# EAGLE library part 6120XX21721_61205021721 (library WR-BHD)
WR-BHD 2.54 mm Male Characteristics Working Voltage: 250 V UL approval: E323964 UL94-V0 Applications Industrial Production lines Details see: www.we-online.com/components/products/WTB_WR_BHD_BOX_HEADER_2_54MM_MALE_PCB Updated by Ella 2026-09-16 2026 (C) Würth Elektronik
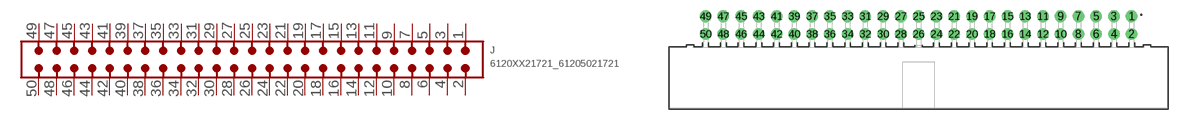
[diagram p180: symbol with the pads of 61205021721; footprint 61205021721]

Designator prefix J

## 6120XX21721_61205021721 (CATEGORY: Connectors; DATASHEET: https://www.we-online.com/redexpert/spec/61205021721?ae; GENDER: Male; LENGTH: 71.16 mm; MANUFACTURER: Würth Elektronik; MOUNT: THT; MPN: 61205021721; OPERATING_TEMPERATURE: -40 °C up to +105 °C; PACKAGING: Tray; PINS: 50; PITCH: 2.54mm; RATED_CURRENT: 3 A; SIZE: THT Angled; TYPE: Angled; VALUE: 61205021721; VERSION: Low Profile)  [61205021721]
1  1  pas
2  2  pas
3  3  pas
4  4  pas
5  5  pas
6  6  pas
7  7  pas
8  8  pas
9  9  pas
10  10  pas
11  11  pas
12  12  pas
13  13  pas
14  14  pas
15  15  pas
16  16  pas
17  17  pas
18  18  pas
19  19  pas
20  20  pas
21  21  pas
22  22  pas
23  23  pas
24  24  pas
25  25  pas
26  26  pas
27  27  pas
28  28  pas
29  29  pas
30  30  pas
31  31  pas
32  32  pas
33  33  pas
34  34  pas
35  35  pas
36  36  pas
37  37  pas
38  38  pas
39  39  pas
40  40  pas
41  41  pas
42  42  pas
43  43  pas
44  44  pas
45  45  pas
46  46  pas
47  47  pas
48  48  pas
49  49  pas
50  50  pas

## Footprint 61205021721 (pad centres in mm)
WR-BHD Wire-to-Board Connectors, 2.54mm, Male, THT Angled, 50pins
drill 1.1: 1 30.48,8.805; 2 30.48,6.265; 3 27.94,8.805; 4 27.94,6.265; 5 25.4,8.805; 6 25.4,6.265; 7 22.86,8.805; 8 22.86,6.265; 9 20.32,8.805; 10 20.32,6.265; 11 17.78,8.805; 12 17.78,6.265; 13 15.24,8.805; 14 15.24,6.265; 15 12.7,8.805; 16 12.7,6.265; 17 10.16,8.805; 18 10.16,6.265; 19 7.62,8.805; 20 7.62,6.265; 21 5.08,8.805; 22 5.08,6.265; 23 2.54,8.805; 24 2.54,6.265; 25 0,8.805; 26 0,6.265; 27 -2.54,8.805; 28 -2.54,6.265; 29 -5.08,8.805; 30 -5.08,6.265; 31 -7.62,8.805; 32 -7.62,6.265; 33 -10.16,8.805; 34 -10.16,6.265; 35 -12.7,8.805; 36 -12.7,6.265; 37 -15.24,8.805; 38 -15.24,6.265; 39 -17.78,8.805; 40 -17.78,6.265; 41 -20.32,8.805; 42 -20.32,6.265; 43 -22.86,8.805; 44 -22.86,6.265; 45 -25.4,8.805; 46 -25.4,6.265; 47 -27.94,8.805; 48 -27.94,6.265; 49 -30.48,8.805; 50 -30.48,6.265